# EAGLE library part TPS61165 (library TI)
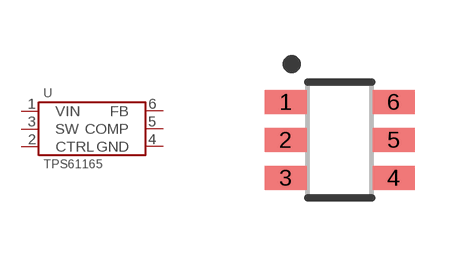
[diagram p10: symbol with the pads of SOT-23-6; footprint SOT-23-6]

Designator prefix U

## TPS61165DBVR  [SOT-23-6]
1  VIN
2  CTRL
3  SW
4  GND
5  COMP
6  FB

## Footprint SOT-23-6 (pad centres in mm)
smd 1.05 x 0.6: 1 -1.35,0.95; 2 -1.35,0; 3 -1.35,-0.95; 4 1.35,-0.95; 5 1.35,0; 6 1.35,0.95